# EAGLE library part FLOPPY34 (library FDC9266_floppy_korr)
Connectors, Male connector, Wave soldering termination, Rated current: 1 A, Angled, Copper alloy, Sn over Ni, Termination side, Au over Pd/Ni, Mating side, Performance level: 2, Thermoplastic resin (PBT), Grey Source: Datasheet <https://b2b.harting.com/files/download/PRD/PDF_TS/09185XXX323_100154466DRW007A.pdf?showPrivacyEmailAgreement=false&contextURL=https://b2b.harting.com/ebusiness/en_us&siteName=Ebusiness Site&autoLogoutEnabled=true&autoLogoutTime=1805>
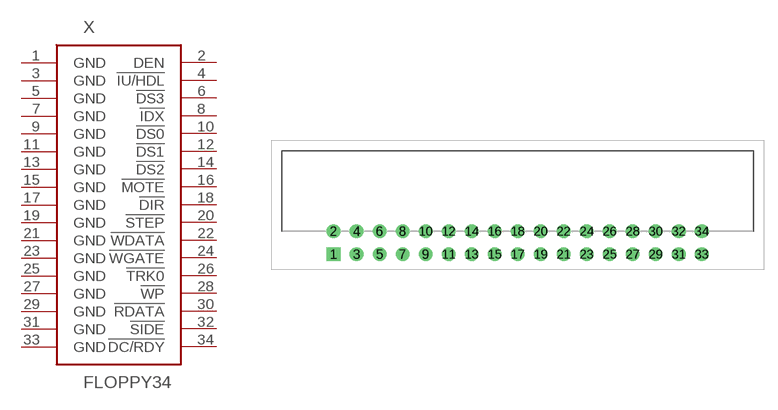
[diagram p7: symbol with the pads of 09185346323; footprint 09185346323]

Designator prefix X

## FLOPPY34 (ARROW_PART_NUMBER: 09185346323; ARROW_PRICE-STOCK: https://www.arrow.com/en/products/09185346323/harting?region=nac; DESCRIPTION: Connectors, Male connector, Wave soldering termination, Rated current: 1 A, Angled, Copper alloy, Sn over Ni, Termination side, Au over Pd/Ni, Mating side, Performance level: 2, Thermoplastic resin (PBT), Grey; HEIGHT: 8.9mm; MANUFACTURER_NAME: HARTING; MANUFACTURER_PART_NUMBER: 09185346323; MOUSER_PART_NUMBER: 617-09-18-534-6323; MOUSER_PRICE-STOCK: https://www.mouser.co.uk/ProductDetail/HARTING/09185346323?qs=GZB%2FOSW0r0GMbz7Zhp6Wbw%3D%3D)  [09185346323]
1  GND  sup
2  DEN  in
3  GND  sup
4  !IU/HDL  in
5  GND  sup
6  !DS3  in
7  GND  sup
8  !IDX  out
9  GND  sup
10  !DS0  in
11  GND  sup
12  !DS1  in
13  GND  sup
14  !DS2  in
15  GND  sup
16  !MOTE  in
17  GND  sup
18  !DIR  in
19  GND  sup
20  !STEP  in
21  GND  sup
22  !WDATA  in
23  GND  sup
24  !WGATE  in
25  GND  sup
26  !TRK0  out
27  GND  sup
28  !WP  out
29  GND  sup
30  !RDATA  out
31  GND  sup
32  !SIDE  in
33  GND  sup
34  !DC/RDY  out

## Footprint 09185346323 (pad centres in mm)
09185346323
drill 1 pad 1.5 square: 1 0,0
drill 1 pad 1.5: 2 0,2.54; 3 2.54,0; 4 2.54,2.54; 5 5.08,0; 6 5.08,2.54; 7 7.62,0; 8 7.62,2.54; 9 10.16,0; 10 10.16,2.54; 11 12.7,0; 12 12.7,2.54; 13 15.24,0; 14 15.24,2.54; 15 17.78,0; 16 17.78,2.54; 17 20.32,0; 18 20.32,2.54; 19 22.86,0; 20 22.86,2.54; 21 25.4,0; 22 25.4,2.54; 23 27.94,0; 24 27.94,2.54; 25 30.48,0; 26 30.48,2.54; 27 33.02,0; 28 33.02,2.54; 29 35.56,0; 30 35.56,2.54; 31 38.1,0; 32 38.1,2.54; 33 40.64,0; 34 40.64,2.54